# EAGLE library part PINH2X5 (library jpnewman)
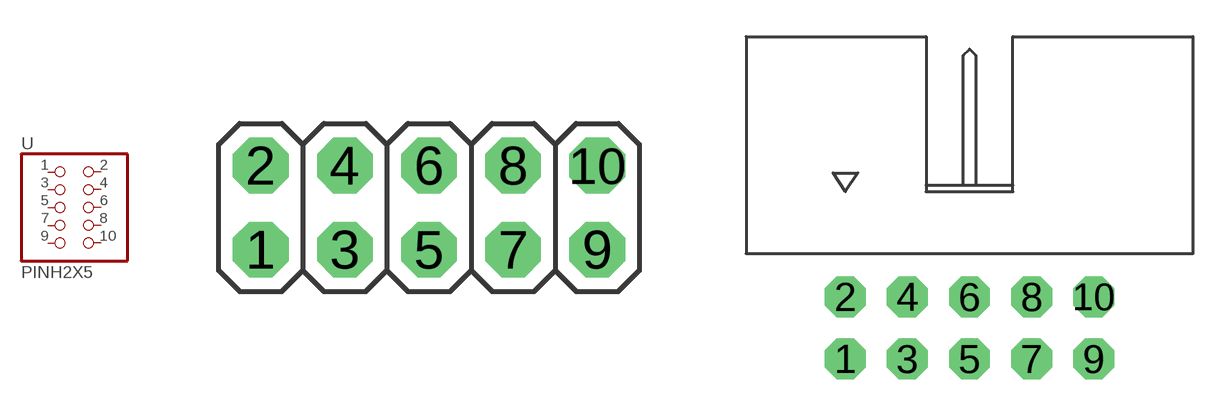
[diagram p16: symbol with the pads of 2X05-BIG; footprints 2X05-BIG, 2X05-IDC]

Designator prefix -

## PINH2X5  [2X05-BIG]
1  1  pas
2  2  pas
3  3  pas
4  4  pas
5  5  pas
6  6  pas
7  7  pas
8  8  pas
9  9  pas
10  10  pas

## PINH2X5_ICD-H  [2X05-IDC]
Pads as for 2X05-BIG

## Footprint 2X05-BIG (pad centres in mm)
drill 1.016 pad 1.676 octagon: 1 1.27,-1.27; 2 1.27,1.27; 3 3.81,-1.27; 4 3.81,1.27; 5 6.35,-1.27; 6 6.35,1.27; 7 8.89,-1.27; 8 8.89,1.27; 9 11.43,-1.27; 10 11.43,1.27

## Footprint 2X05-IDC (pad centres in mm)
drill 1.016 pad 1.676 octagon: 1 -5.08,-2.54; 2 -5.08,0; 3 -2.54,-2.54; 4 -2.54,0; 5 0,-2.54; 6 0,0; 7 2.54,-2.54; 8 2.54,0; 9 5.08,-2.54; 10 5.08,0